# EAGLE library part MP2307DN-LF (library _mtvl.power)
MP2307 Series 23V 340 kHz 3A Synchronous Rectified Step-Down Converter - SOIC-8
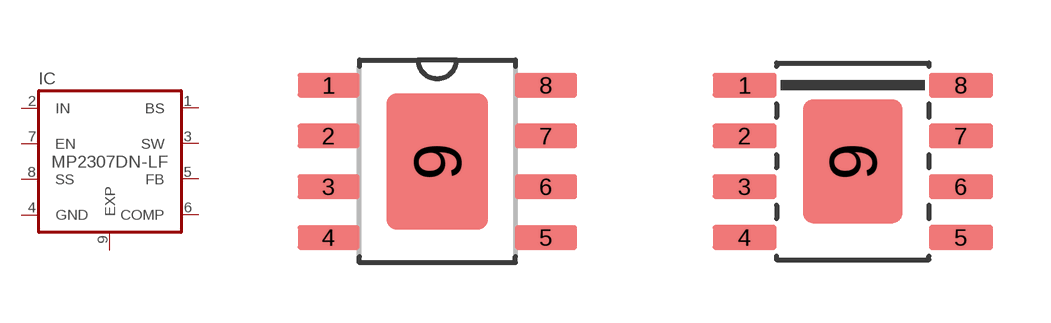
[diagram p5: symbol with the pads of SO8_EP; footprints SO8_EP, SOIC8N]

Designator prefix IC

## MP2307DN-LF"  [SO8_EP]
1  BS  pas
2  IN  in
3  SW  out
4  GND  pwr
5  FB  in
6  COMP  pas
7  EN  in
8  SS  pas
9  EXP  pwr

## MP2307DN-LF  [SOIC8N]
Pads as for SO8_EP

## Footprint SO8_EP (pad centres in mm)
smd 1.549 x 0.61: 1 -2.718,1.905; 2 -2.718,0.635; 3 -2.718,-0.635; 4 -2.718,-1.905; 5 2.718,-1.905; 6 2.718,-0.635; 7 2.718,0.635; 8 2.718,1.905
smd 2.54 x 3.404: 9 0,0

## Footprint SOIC8N (pad centres in mm)
Small Outline IC with Power Pad
smd 1.6 x 0.61: 1 -2.705,1.905; 2 -2.705,0.635; 3 -2.705,-0.635; 4 -2.705,-1.905; 5 2.705,-1.905; 6 2.705,-0.635; 7 2.705,0.635; 8 2.705,1.905
smd 2.49 x 3.1: 9 0,0